# Altium footprint library maglib.PcbLib: 31 footprints (part 1 of 2)
Each footprint in its own frame and in the unit in brackets; x right, y up, seen from the top. Pads: shape width x height; smd on the part's side, far side on the other; paste and mask are expansions set on the pad; w line width, h text height; cw(c..) or ccw(c..) is an arc to the next point about the centre after c.
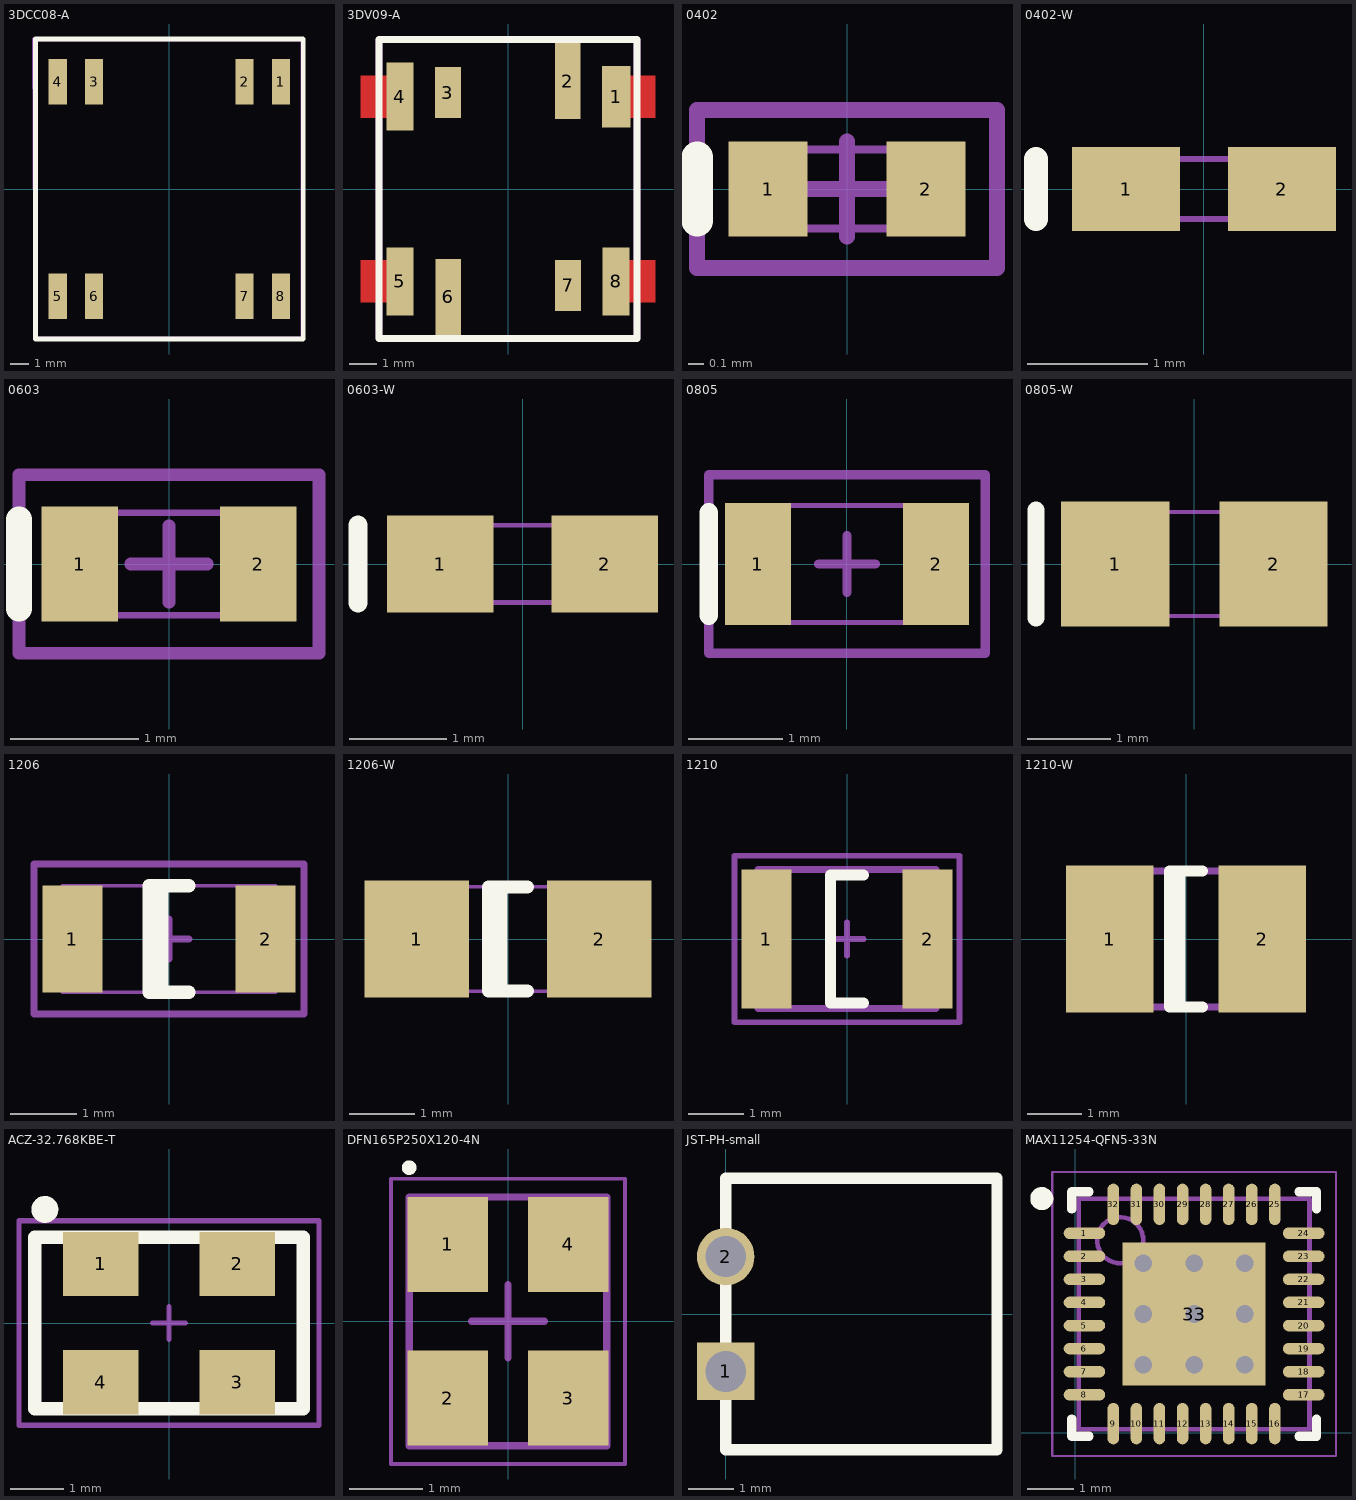
[diagram p0: the footprints below, top view; thin cyan lines are the x and y axes]

## 3DCC08-A [mm] "premo coil"
pads (8):
  rect 1x2.5 smd: 1(6.14,5.91) 2(4.14,5.91) 3(-4.14,5.91) 4(-6.14,5.91) 5(-6.14,-5.91) 6(-4.14,-5.91) 7(4.14,-5.91) 8(6.14,-5.91)
Top Overlay:
  lines w0.254: -7.366,-8.255 -7.366,8.255 7.366,8.255 7.366,-8.255 -7.366,-8.255
Mechanical 13:
  lines w0.254: -7.426,8.25 -7.35,-8.25 7.35,-8.25 7.35,8.25 -7.35,8.25

## 3DV09-A [mm] "premo coil"
pads (8):
  rect 1.06x2.27 smd: 1(3.98,3.4)
  rect 0.933x2.8 smd: 2(2.2,3.97) 6(-2.2,-3.97)
  rect 0.955x1.89 smd: 3(-2.21,3.55) 7(2.21,-3.55)
  rect 1x2.5 smd: 4(-3.98,3.4) 5(-3.98,-3.4) 8(3.98,-3.4)
Top Layer:
  region: -4.318,-4.17 -4.318,-2.62 -5.42,-2.62 -5.42,-4.17
  region: -4.318,2.62 -4.318,4.17 -5.42,4.17 -5.42,2.62
  region: 5.42,-4.17 5.42,-2.62 4.318,-2.62 4.318,-4.17
  region: 5.42,2.62 5.42,4.17 4.318,4.17 4.318,2.62
Top Overlay:
  lines w0.254: -4.75,-5.5 -4.75,5.5 4.75,5.5 4.75,-5.5 -4.75,-5.5
Top Solder:
  region: -4.318,-2.52 -4.318,-4.27 -5.52,-4.27 -5.52,-2.52
  region: -4.318,4.27 -4.318,2.52 -5.52,2.52 -5.52,4.27
  region: 5.52,-2.52 5.52,-4.27 4.318,-4.27 4.318,-2.52
  region: 5.52,4.27 5.52,2.52 4.318,2.52 4.318,4.27
Mechanical 13:
  lines w0.254: -4.75,-5.5 -4.75,5.5 4.75,5.5 4.75,-5.5 -4.75,-5.5

## 0402 [mm] "Surface Mount; Body 1 x 0.5 mm (LxW typ)"
height 0.5
pads (2):
  rect 0.5x0.6 smd: 1(-0.5,0) 2(0.5,0)
Top Overlay:
  lines w0.2: -0.95,-0.2 -0.95,0.2
Mechanical 13:
  lines w0.051: -0.5,-0.25 0.5,-0.25 0.5,0.25 -0.5,0.25 -0.5,-0.25
  text ".Designator" at -0.4,-0.1 h0.23
Mechanical 15:
  lines w0.1: -0.3,0 0.3,0 ; 0,-0.3 0,0.3 ; -0.95,-0.5 0.95,-0.5 0.95,0.5 -0.95,0.5 -0.95,-0.5
3D body: height 0.5, standoff 0, extent -0.5,-0.25 0.5,0.25

## 0402-W [mm] "Surface Mount - Wide; Body 1.0 x 0.5 mm (LxW typ)"
height 0.5
pads (2):
  rect 0.9x0.7 smd: 1(-0.65,0) 2(0.65,0)
Top Overlay:
  lines w0.2: -1.4,-0.25 -1.4,0.25
Mechanical 13:
  lines w0.051: -0.5,-0.25 -0.5,0.25 0.5,0.25 0.5,-0.25 -0.5,-0.25
3D body: height 0.5, standoff 0, extent -0.5,-0.25 0.5,0.25

## 0603 [mm] "Surface Mount; Body 1.6 x 0.8 mm (LxW typ)"
height 0.8
pads (2):
  rect 0.6x0.9 smd: 1(-0.7,0) 2(0.7,0)
Top Overlay:
  lines w0.2: -1.175,-0.35 -1.175,0.35
Mechanical 13:
  lines w0.051: -0.8,-0.4 0.8,-0.4 0.8,0.4 -0.8,0.4 -0.8,-0.4
  text ".Designator" at -0.65,-0.1 h0.3
Mechanical 15:
  lines w0.1: -0.3,0 0.3,0 ; 0,-0.3 0,0.3 ; -1.175,-0.7 1.175,-0.7 1.175,0.7 -1.175,0.7 -1.175,-0.7
3D body: height 0.8, standoff 0, extent -0.8,-0.4 0.8,0.4

## 0603-W [mm] "Surface Mount - Wide; Body 1.6 x 0.8 mm (LxW typ)"
height 0.8
pads (2):
  rect 1.1x1 smd: 1(-0.85,0) 2(0.85,0)
Top Overlay:
  lines w0.2: -1.7,-0.4 -1.7,0.4
Mechanical 13:
  lines w0.051: -0.8,-0.4 -0.8,0.4 0.8,0.4 0.8,-0.4 -0.8,-0.4
3D body: height 0.8, standoff 0, extent -0.8,-0.4 0.8,0.4

## 0805 [mm] "Surface Mount; Body 2.0 x 1.25 mm (LxW typ)"
height 1.25
pads (2):
  rect 0.7x1.3 smd: 1(-0.95,0) 2(0.95,0)
Top Overlay:
  lines w0.2: -1.475,-0.55 -1.475,0.55
Mechanical 13:
  lines w0.051: -1,-0.625 -1,0.625 1,0.625 1,-0.625 -1,-0.625
  text ".Designator" at -0.762,-0.127 h0.38
Mechanical 15:
  lines w0.1: -0.3,0 0.3,0 ; 0,-0.3 0,0.3 ; -1.475,-0.95 -1.475,0.95 1.475,0.95 1.475,-0.95 -1.475,-0.95
3D body: height 1.25, standoff 0, extent -1,-0.625 1,0.625

## 0805-W [mm] "Surface Mount - Wide; Body 2.0 x 1.25 mm (LxW typ)"
height 1.25
pads (2):
  rect 1.3x1.5 smd: 1(-0.95,0) 2(0.95,0)
Top Overlay:
  lines w0.2: -1.9,-0.65 -1.9,0.65
Mechanical 13:
  lines w0.051: -1,-0.625 1,-0.625 1,0.625 -1,0.625 -1,-0.625
3D body: height 1.25, standoff 0, extent -1,-0.625 1,0.625

## 1206 [mm] "Surface Mount; Body 3.2 x 1.6 mm (LxW typ)"
height 1.6
pads (2):
  rect 0.9x1.6 smd: 1(-1.45,0) 2(1.45,0)
Top Overlay:
  lines w0.2: -0.11,-0.8 -0.11,0.8 ; 0.3,-0.8 -0.3,-0.8 -0.3,0.8 0.3,0.8
Mechanical 13:
  lines w0.051: -1.6,-0.8 -1.6,0.8 1.6,0.8 1.6,-0.8 -1.6,-0.8
  text ".Designator" at -1.4,-0.35 h0.76
Mechanical 15:
  lines w0.1: -0.3,0 0.3,0 ; 0,-0.3 0,0.3 ; -2.025,-1.125 -2.025,1.125 2.025,1.125 2.025,-1.125 -2.025,-1.125
3D body: height 1.1, standoff 0, extent -1.6,-0.8 1.6,0.8

## 1206-W [mm] "Surface Mount - Wide; Body 3.2 x 1.6 mm (LxW typ)"
height 1.6
pads (2):
  rect 1.6x1.8 smd: 1(-1.4,0) 2(1.4,0)
Top Overlay:
  lines w0.2: -0.11,-0.8 -0.11,0.8 ; 0.3,-0.8 -0.3,-0.8 -0.3,0.8 0.3,0.8
Mechanical 13:
  lines w0.051: -1.6,-0.8 1.6,-0.8 1.6,0.8 -1.6,0.8 -1.6,-0.8
3D body: height 1.1, standoff 0, extent -1.6,-0.8 1.6,0.8

## 1210 [mm] "Surface Mount; Body 3.2 x 2.5 mm (LxW typ)"
height 2.5
pads (2):
  rect 0.9x2.5 smd: 1(-1.45,0) 2(1.45,0)
Top Overlay:
  lines w0.2: 0.3,-1.15 -0.3,-1.15 -0.3,1.15 0.3,1.15
Mechanical 13:
  lines w0.127: -1.6,-1.25 -1.6,1.25 1.6,1.25 1.6,-1.25 -1.6,-1.25
Mechanical 15:
  lines w0.1: -0.3,0 0.3,0 ; 0,-0.3 0,0.3 ; -2.025,-1.5 2.025,-1.5 2.025,1.5 -2.025,1.5 -2.025,-1.5
3D body: height 2.5, standoff 0, extent -1.6,-1.25 1.6,1.25

## 1210-W [mm] "Chip Capacitor; Body 3.2 x 2.5 mm (LxW typ)"
height 1.7
pads (2):
  rect 1.6x2.7 smd: 1(-1.4,0) 2(1.4,0)
Top Overlay:
  lines w0.2: -0.11,-1.25 -0.11,1.25 ; 0.3,-1.25 -0.3,-1.25 -0.3,1.25 0.3,1.25
Mechanical 13:
  lines w0.127: -1.6,-1.25 1.6,-1.25 1.6,1.25 -1.6,1.25 -1.6,-1.25
3D body: height 2.5, standoff 0, extent -1.6,-1.25 1.6,1.25

## ACZ-32.768KBE-T [mm]
pads (4):
  rect 1.4x1.2 smd: 1(-1.27,1.1) 2(1.27,1.1) 3(1.27,-1.1) 4(-1.27,-1.1)
Top Overlay:
  circle w0.25: c-2.312,2.116 r0.125
  lines w0.254: -2.5,-1.6 2.5,-1.6 2.5,1.6 -2.5,1.6 -2.5,-1.6
Mechanical 15:
  lines w0.1: -0.3,0 0.3,0 ; 0,-0.3 0,0.3 ; -2.794,-1.905 -2.794,1.905 2.794,1.905 2.794,-1.905 -2.794,-1.905

## DFN165P250X120-4N [mm] "DFN, 4-Leads, Body 3.20x2.50mm, Pitch 1.65mm, IPC Medium Density"
height 1.2
pads (4):
  rect 1.1x1.3 smd: 1(-0.825,1.05) 2(-0.825,-1.05) 3(0.825,-1.05) 4(0.825,1.05)
Top Overlay:
  circle w0.1: c-1.35,2.1 r0.05
Mechanical 13:
  lines w0.1: -1.35,-1.7 1.35,-1.7 1.35,1.7 -1.35,1.7 -1.35,-1.7
Mechanical 15:
  lines w0.05: -1.6,-1.95 1.6,-1.95 1.6,1.95 -1.6,1.95 -1.6,-1.95
  lines w0.1: -0.5,0 0.5,0 ; 0,-0.5 0,0.5
3D body "DFN165P250X120-4N.step": height 1.2, standoff 0, extent -1.35,-1.7 1.35,1.7

## JST-PH-small [mm]
pads (2):
  rect 1.271x1.271 hole 0.9: 1(0,-1.27)
  oval 1.271x1.271 hole 0.9: 2(0,1.27)
Top Overlay:
  lines w0.254: 0,-3 6,-3 6,3 0,3 0,-3

## MAX11254-QFN5-33N [mm]
pads (33):
  oval 0.9x0.25 smd: 1(0.2,4.327) 2(0.2,3.827) 3(0.2,3.327) 4(0.2,2.827) 5(0.2,2.327) 6(0.2,1.827) 7(0.2,1.327) 8(0.2,0.827) 17(4.95,0.827) 18(4.95,1.327) 19(4.95,1.827) 20(4.95,2.327) 21(4.95,2.827) 22(4.95,3.327) 23(4.95,3.827) 24(4.95,4.327)
  oval 0.25x0.9 smd: 9(0.825,0.202) 10(1.325,0.202) 11(1.825,0.202) 12(2.325,0.202) 13(2.825,0.202) 14(3.325,0.202) 15(3.825,0.202) 16(4.325,0.202) 25(4.325,4.952) 26(3.825,4.952) 27(3.325,4.952) 28(2.825,4.952) 29(2.325,4.952) 30(1.825,4.952) 31(1.325,4.952) 32(0.825,4.952)
  rect 3.1x3.1 smd: 33(2.575,2.577)
via 3.675,1.477 diameter 0.75 hole 0.381
via 2.575,1.477 diameter 0.75 hole 0.381
via 1.475,1.477 diameter 0.75 hole 0.381
via 3.675,2.577 diameter 0.75 hole 0.381
via 2.575,2.577 diameter 0.75 hole 0.381
via 1.475,2.577 diameter 0.75 hole 0.381
via 3.675,3.677 diameter 0.75 hole 0.381
via 2.575,3.677 diameter 0.75 hole 0.381
via 1.475,3.677 diameter 0.75 hole 0.381
Top Overlay:
  circle w0.25: c-0.725,5.077 r0.125
  lines w0.2: -0.075,0.302 -0.075,-0.073 0.3,-0.073 ; -0.075,4.852 -0.075,5.227 0.3,5.227 ; 4.85,-0.073 5.225,-0.073 5.225,0.302 ; 4.85,5.227 5.225,5.227 5.225,4.852
Mechanical 13:
  circle w0.1: c0.975,4.177 r0.5
  lines w0.1: 0.075,0.077 5.075,0.077 5.075,5.077 0.075,5.077 0.075,0.077
Mechanical 15:
  lines w0.05: -0.5,-0.498 5.65,-0.498 5.65,5.652 -0.5,5.652 -0.5,-0.498
  lines w0.1: 2.075,2.577 3.075,2.577 ; 2.575,2.077 2.575,3.077
3D body: height 0.8, standoff 0, extent 0.075,0.077 5.075,5.077